# EAGLE library part X5043PZ (library Intersil_By_element14_Batch_1)
CPU Supervisor with 4K SPI EEPROM
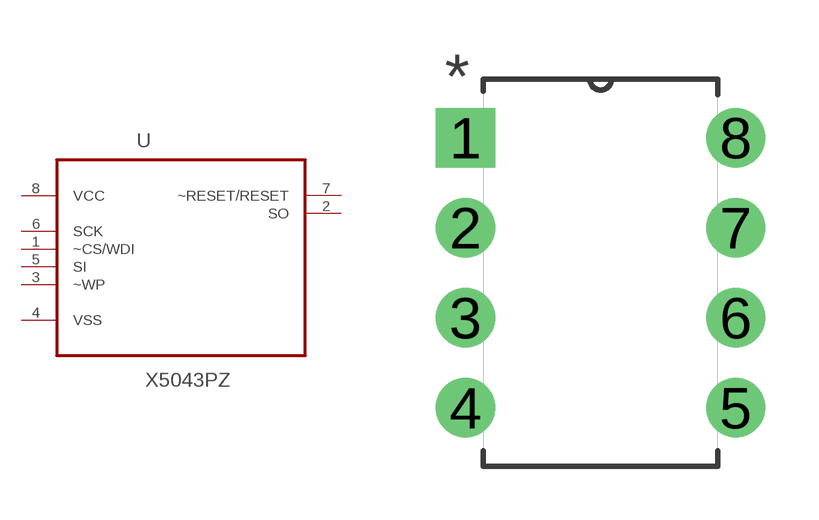
[diagram p228: symbol with the pads of DIP254P762X432-8; footprint DIP254P762X432-8]

Designator prefix U

## X5043PZ (MPN: X5043PZ; OC_FARNELL: 1562062; OC_NEWARK: 79K8884; PACKAGE: PDIP-8; SUPPLIER: INTERSIL)  [DIP254P762X432-8]
1  ~CS/WDI  in
2  SO  out
3  ~WP  in
4  VSS  pas
5  SI  in
6  SCK  in
7  ~RESET/RESET  out
8  VCC  pwr

## Footprint DIP254P762X432-8 (pad centres in mm)
drill 1.118 square: 1 -7.62,7.62
drill 1.118: 2 -7.62,5.08; 3 -7.62,2.54; 4 -7.62,0; 5 0,0; 6 0,2.54; 7 0,5.08; 8 0,7.62